# Altium footprint library can_7.5_1.PcbLib: 1 footprints
Each footprint in its own frame and in the unit in brackets; x right, y up, seen from the top. Pads: shape width x height; smd on the part's side, far side on the other; paste and mask are expansions set on the pad; w line width, h text height; cw(c..) or ccw(c..) is an arc to the next point about the centre after c.
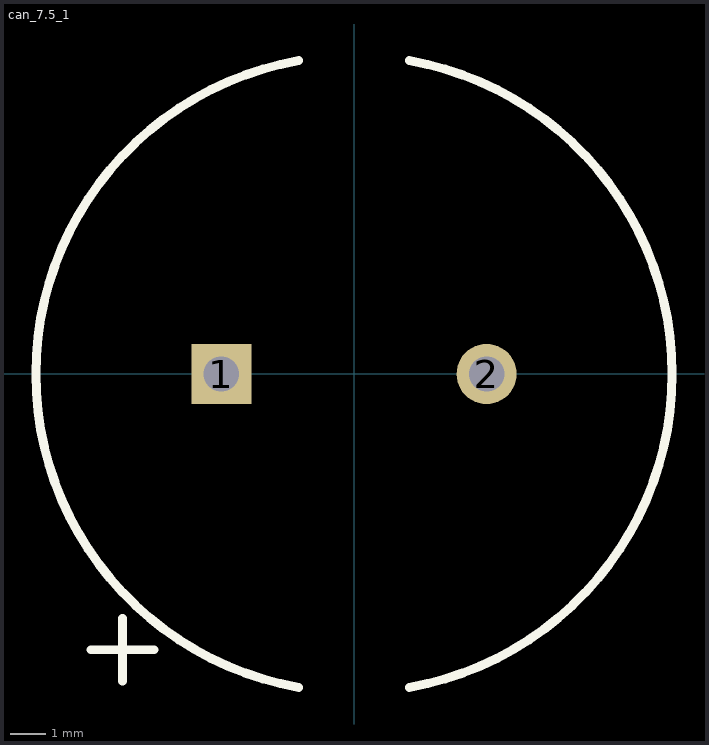
[diagram p0: the footprint, top view; thin cyan lines are the x and y axes]

## can_7.5_1 [mm] "2 Leaded Al Cap, 7.5mm spacing, 18mm diameter"
height 20
pads (2):
  rect 1.7x1.7 hole 1: 1(-3.75,0)
  round 1.7 hole 1: 2(3.75,0)
Top Overlay:
  lines w0.254: -7.439,-7.8 -5.661,-7.8 ; -6.55,-8.689 -6.55,-6.911 ; -1.563,-8.863 cw(c0,0) -1.563,8.863 ; 1.563,-8.863 ccw(c0,0) 1.563,8.863
3D body: height 18, standoff 0, extent -9,-8.997 9,8.997